# EAGLE library part SSD1306 (library workoutAid)
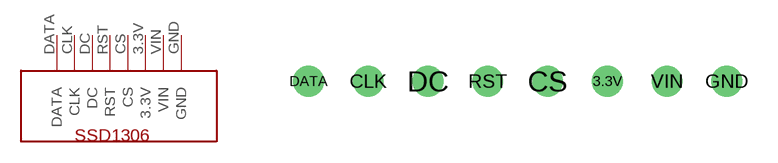
[diagram p1: symbol with the pads of SSD1306; footprint SSD1306]

Designator prefix -

## SSD1306  [SSD1306]
3.3V  3.3V
CLK  CLK
CS  CS
DATA  DATA
DC  DC
GND  GND
RST  RST
VIN  VIN

## Footprint SSD1306 (pad centres in mm)
drill 0.8: 3.3V 3.81,2.54; CLK -6.35,2.54; CS 1.27,2.54; DATA -8.89,2.54; DC -3.81,2.54; GND 8.89,2.54; RST -1.27,2.54; VIN 6.35,2.54